# EAGLE library part ATTINY20 (library dubec)
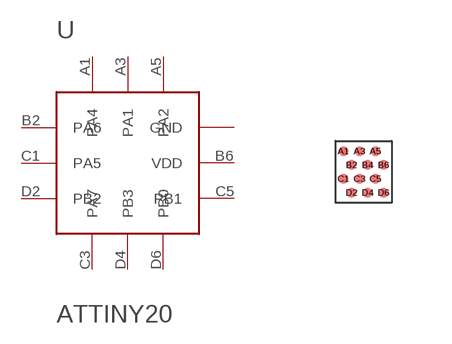
[diagram p6: symbol with the pads of 12WLCSP; footprint 12WLCSP]

Designator prefix -

## ATTINY2012U-3  [12WLCSP]
A1  PA4
A3  PA1
A5  PA2
B2  PA6
B4  GND  pwr
B6  VDD  pwr
C1  PA5
C3  PA7
C5  PB1
D2  PB2
D4  PB3
D6  PB0

## Footprint 12WLCSP (pad centres in mm)
smd 0.25 x 0.25: A1 -0.5,0.519; A3 -0.1,0.519; A5 0.3,0.519; B2 -0.3,0.173; B4 0.1,0.173; B6 0.5,0.173; C1 -0.5,-0.173; C3 -0.1,-0.173; C5 0.3,-0.173; D2 -0.3,-0.519; D4 0.1,-0.519; D6 0.5,-0.519